# EAGLE library part TUSB2046 (library newchips)
4-port USB hub
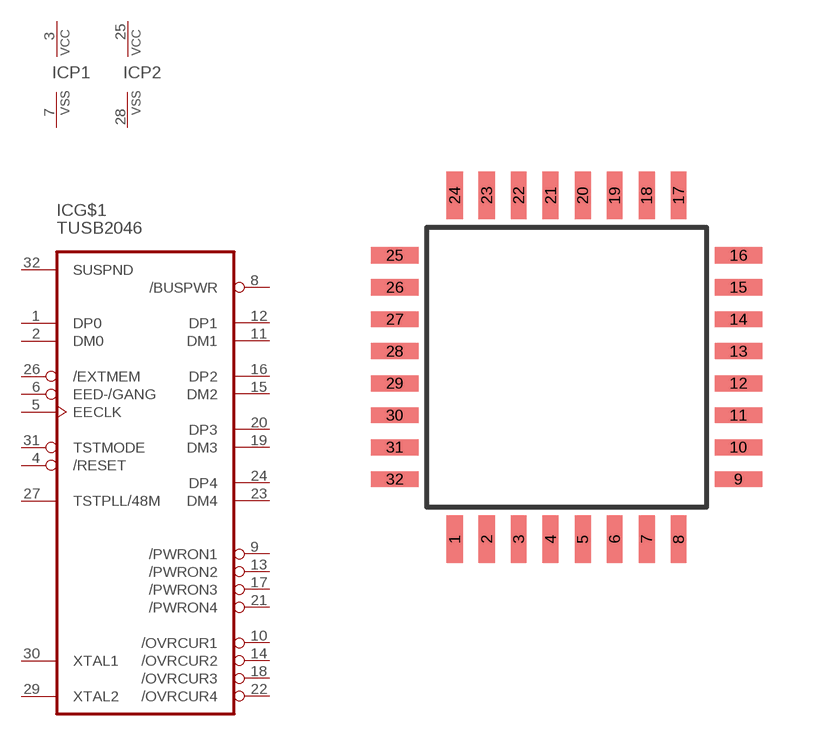
[diagram p7: symbol with the pads of LQFP32; footprint LQFP32]

Designator prefix IC; gates G$1=TUSB2046 P1=VCCVSS P2=VCCVSS

## TUSB2046  [LQFP32]
1  G$1:DP0
2  G$1:DM0
3  P1:VCC  pwr
4  G$1:/RESET  in
5  G$1:EECLK  out
6  G$1:EED-/GANG
7  P1:VSS  pwr
8  G$1:/BUSPWR  in
9  G$1:/PWRON1  out
10  G$1:/OVRCUR1  in
11  G$1:DM1
12  G$1:DP1
13  G$1:/PWRON2  out
14  G$1:/OVRCUR2  in
15  G$1:DM2
16  G$1:DP2
17  G$1:/PWRON3  out
18  G$1:/OVRCUR3  in
19  G$1:DM3
20  G$1:DP3
21  G$1:/PWRON4  out
22  G$1:/OVRCUR4  in
23  G$1:DM4
24  G$1:DP4
25  P2:VCC  pwr
26  G$1:/EXTMEM  in
27  G$1:TSTPLL/48M
28  P2:VSS  pwr
29  G$1:XTAL2  out
30  G$1:XTAL1  in
31  G$1:TSTMODE  in
32  G$1:SUSPND  out

## Footprint LQFP32 (pad centres in mm)
LQFP-32 package 7x7 mm case, 0.8 mm lead pitch
smd 0.4 x 1.2: 1 -2.8,-4.3; 2 -2,-4.3; 3 -1.2,-4.3; 4 -0.4,-4.3; 5 0.4,-4.3; 6 1.2,-4.3; 7 2,-4.3; 8 2.8,-4.3; 17 2.8,4.3; 18 2,4.3; 19 1.2,4.3; 20 0.4,4.3; 21 -0.4,4.3; 22 -1.2,4.3; 23 -2,4.3; 24 -2.8,4.3
smd 1.2 x 0.4: 9 4.3,-2.8; 10 4.3,-2; 11 4.3,-1.2; 12 4.3,-0.4; 13 4.3,0.4; 14 4.3,1.2; 15 4.3,2; 16 4.3,2.8; 25 -4.3,2.8; 26 -4.3,2; 27 -4.3,1.2; 28 -4.3,0.4; 29 -4.3,-0.4; 30 -4.3,-1.2; 31 -4.3,-2; 32 -4.3,-2.8